# EAGLE library part LT1001 (library parts2011)
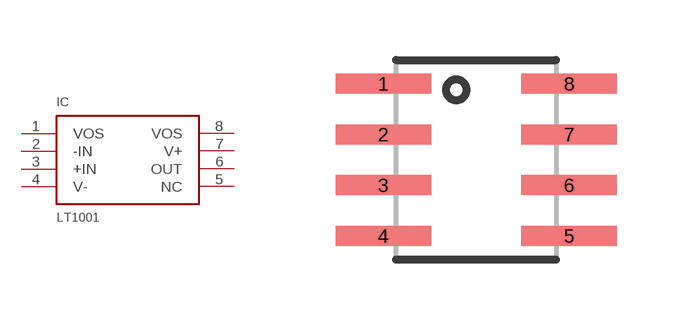
[diagram p4: symbol with the pads of SOIC-8; footprint SOIC-8]

Designator prefix IC

## LT1001-SOIC-8  [SOIC-8]
1  VOS  in
2  -IN  in
3  +IN  in
4  V-  pwr
5  NC  nc
6  OUT  out
7  V+  pwr
8  VOS  in

## Footprint SOIC-8 (pad centres in mm)
smd 2.388 x 0.5: 1 -2.324,1.905; 2 -2.324,0.635; 3 -2.324,-0.635; 4 -2.324,-1.905; 5 2.324,-1.905; 6 2.324,-0.635; 7 2.324,0.635; 8 2.324,1.905